# Altium schematic symbol library SCH - POWER - SWITCHMODE - ANALOG DEVICES MAXM1763x.SchLib: 1 symbol
Pins are listed as number, name and electrical type; pins without a type are passive.

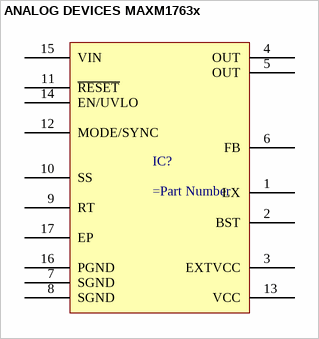
[diagram p0: symbol ANALOG DEVICES MAXM1763x]

## ANALOG DEVICES MAXM1763x
designator IC?
pins: 1 LX, 2 BST, 3 EXTVCC, 4 OUT, 5 OUT, 6 FB, 7 SGND, 8 SGND, 9 RT, 10 SS, 11 ~{RESET}, 12 MODE/SYNC, 13 VCC, 14 EN/UVLO, 15 VIN, 16 PGND, 17 EP